# Altium schematic symbol library Régulateur de Tension LM2596.SchLib: 1 symbol
Pins are listed as number, name and electrical type; pins without a type are passive.

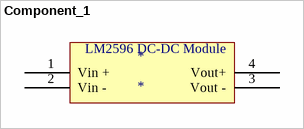
[diagram p0: symbol Component_1]

## Component_1
designator *
footprint Module LM2596 DC-DC
pins: 1 Vin +, 2 Vin -, 3 Vout -, 4 Vout+
text: LM2596 DC-DC Module